# EAGLE library part SI1922EDH (library kitt.ic)
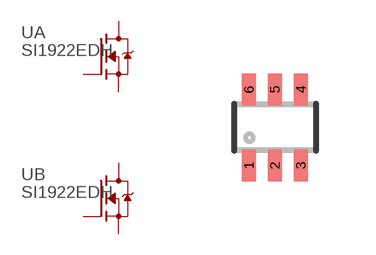
[diagram p5: symbol with the pads of SC70-6; footprint SC70-6]

Designator prefix -; gates A=N-MOSFET B=N-MOSFET

## SI1922EDH  [SC70-6]
1  A:S  pas
2  A:G  pas
3  B:D  pas
4  B:S  pas
5  B:G  pas
6  A:D  pas

## Footprint SC70-6 (pad centres in mm)
smd 0.35 x 0.8: 1 -0.65,-0.95; 2 0,-0.95; 3 0.65,-0.95; 4 0.65,0.95; 5 0,0.95; 6 -0.65,0.95